# Altium footprint library SAMTEC_TSM-106-04-S-DV-008.PcbLib: 1 footprints
Each footprint in its own frame and in the unit in brackets; x right, y up, seen from the top. Pads: shape width x height; smd on the part's side, far side on the other; paste and mask are expansions set on the pad; w line width, h text height; cw(c..) or ccw(c..) is an arc to the next point about the centre after c.
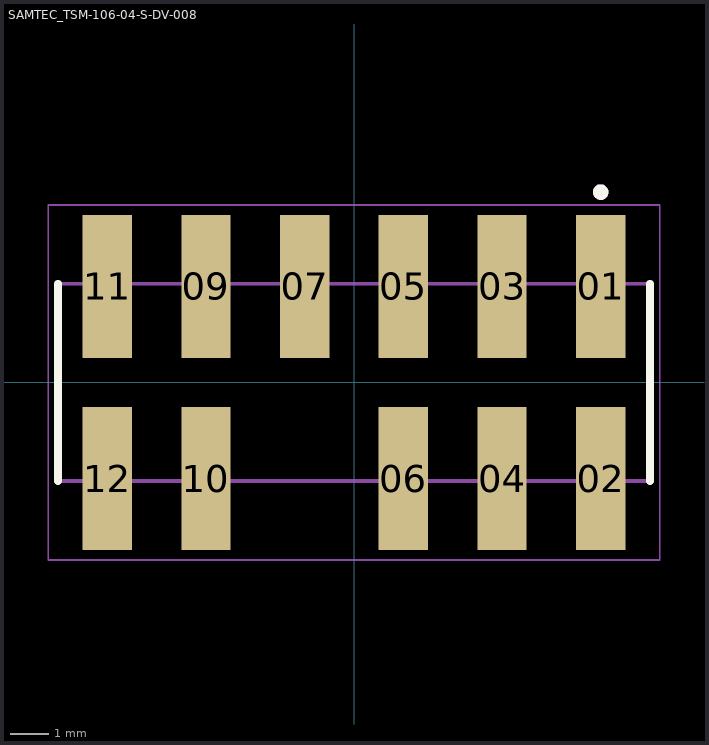
[diagram p0: the footprint, top view; thin cyan lines are the x and y axes]

## SAMTEC_TSM-106-04-S-DV-008 [mm]
pads (11):
  rect 1.27x3.68 smd: 01(6.35,2.475) 02(6.35,-2.475) 03(3.81,2.475) 04(3.81,-2.475) 05(1.27,2.475) 06(1.27,-2.475) 07(-1.27,2.475) 09(-3.81,2.475) 10(-3.81,-2.475) 11(-6.35,2.475) 12(-6.35,-2.475)
Top Overlay:
  circle w0.2: c6.35,4.9 r0.1
  lines w0.2: -7.62,-2.54 -7.62,2.54 ; 7.62,-2.54 7.62,2.54
Mechanical 13:
  circle w0.2: c6.35,4.9 r0.1
  lines w0.1: -7.62,-2.54 -7.62,2.54 7.62,2.54 7.62,-2.54 -7.62,-2.54
Mechanical 15:
  lines w0.05: -7.87,-4.565 -7.87,4.565 7.87,4.565 7.87,-4.565 -7.87,-4.565